# Altium footprint library cf2loco.PcbLib: 6 footprints
Each footprint in its own frame and in the unit in brackets; x right, y up, seen from the top. Pads: shape width x height; smd on the part's side, far side on the other; paste and mask are expansions set on the pad; w line width, h text height; cw(c..) or ccw(c..) is an arc to the next point about the centre after c.
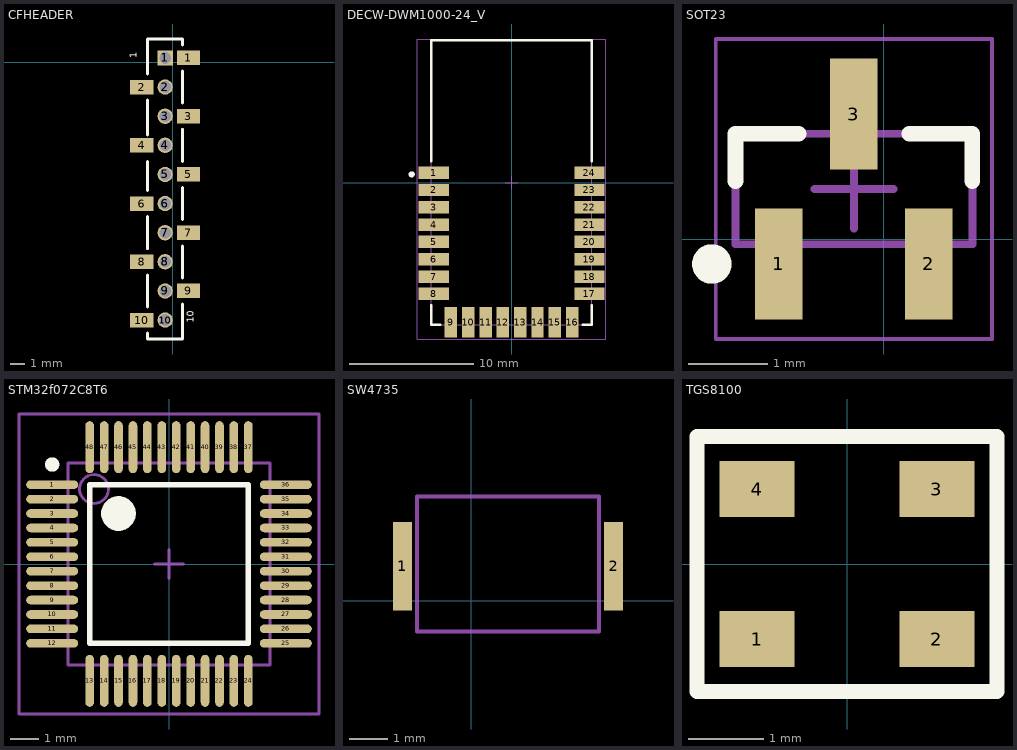
[diagram p0: the footprints below, top view; thin cyan lines are the x and y axes]

## CFHEADER [mm]
pads (30):
  rect 1.05x1.05 hole 0.8 paste-1.05 mask-1.05: 1(-0.528,0.3)
  round 1.05 smd paste-1.05 mask-0.05: 1(-0.528,0.3) 2(-0.528,-1.7) 3(-0.528,-3.7) 4(-0.528,-5.7) 5(-0.528,-7.7) 6(-0.528,-9.7) 7(-0.528,-11.7) 8(-0.528,-13.7) 9(-0.528,-15.7) 10(-0.528,-17.7)
  rect 1.6x1 smd paste-0.03 mask+0: 1(1.072,0.3) 2(-2.128,-1.7) 3(1.072,-3.7) 4(-2.128,-5.7) 5(1.072,-7.7) 6(-2.128,-9.7) 7(1.072,-11.7) 8(-2.128,-13.7) 9(1.072,-15.7) 10(-2.128,-17.7)
  round 1.05 hole 0.8 paste-1.05 mask-1.05: 2(-0.528,-1.7) 3(-0.528,-3.7) 4(-0.528,-5.7) 5(-0.528,-7.7) 6(-0.528,-9.7) 7(-0.528,-11.7) 8(-0.528,-13.7) 9(-0.528,-15.7) 10(-0.528,-17.7)
Top Overlay:
  lines w0.2: -1.728,-18.6 -1.728,-19 0.672,-19 0.672,-16.6 ; -1.728,-16.8 -1.728,-14.6 ; -1.728,-12.8 -1.728,-10.6 ; -1.728,-8.8 -1.728,-6.8 ; -1.728,-5 -1.728,-2.6 ; -1.728,-0.8 -1.728,1.6 0.672,1.6 0.672,1.2 ; 0.672,-14.8 0.672,-12.6 ; 0.672,-10.8 0.672,-8.6 ; 0.672,-6.8 0.672,-4.6 ; 0.672,-2.8 0.672,-0.6
  text "1" at -2.307,0.271 h0.8
  text "10" at 1.6,-17.883 h0.8

## DECW-DWM1000-24_V [mm] "SMD, 24-Leads, Body 23x13mm, Pitch 1.4mm"
height 4
pads (24):
  rect 2.45x1 smd: 1(-6.295,0.8) 2(-6.295,-0.6) 3(-6.295,-2) 4(-6.295,-3.4) 5(-6.295,-4.8) 6(-6.295,-6.2) 7(-6.295,-7.6) 8(-6.295,-9) 17(6.295,-9) 18(6.295,-7.6) 19(6.295,-6.2) 20(6.295,-4.8) 21(6.295,-3.4) 22(6.295,-2) 23(6.295,-0.6) 24(6.295,0.8)
  rect 1x2.45 smd: 9(-4.9,-11.295) 10(-3.5,-11.295) 11(-2.1,-11.295) 12(-0.7,-11.295) 13(0.7,-11.295) 14(2.1,-11.295) 15(3.5,-11.295) 16(4.9,-11.295)
Top Overlay:
  circle w0.25: c-8.07,0.66 r0.125
  lines w0.2: -6.5,-9.9 -6.5,-11.5 -5.77,-11.5 ; -6.5,1.7 -6.5,11.5 6.5,11.5 6.5,1.7 ; 5.77,-11.5 6.5,-11.5 6.5,-9.9
Mechanical 13:
  lines w0.1: -6.5,-11.5 6.5,-11.5 6.5,11.5 -6.5,11.5 -6.5,-11.5
Mechanical 15:
  lines w0.05: -7.62,-12.645 7.62,-12.645 7.62,11.6 -7.62,11.6 -7.62,-12.645 ; -0.5,0 0.5,0 -0.5,0 ; 0,-0.5 0,0.5 0,-0.5
3D body: height 4, standoff 0, extent -6.5,-11.5 6.5,11.5

## SOT23 [mm]
height 3
pads (3):
  rect 0.6x1.4 smd: 1(-1.331,-0.315) 2(0.569,-0.315) 3(-0.381,1.585)
Top Overlay:
  circle w0.25: c-2.181,-0.315 r0.125
  lines w0.2: -1.881,0.735 -1.881,1.335 -1.081,1.335 ; 0.319,1.335 1.119,1.335 1.119,0.735
Mechanical 13:
  lines w0.1: -1.881,-0.065 -1.881,1.335 1.119,1.335 1.119,-0.065 -1.881,-0.065
Mechanical 15:
  lines w0.05: -2.131,-1.265 -2.131,2.535 1.369,2.535 1.369,-1.265 -2.131,-1.265
  lines w0.1: -0.881,0.635 0.119,0.635 ; -0.381,0.135 -0.381,1.135
3D body: height 1.1, standoff 0, extent -1.881,-0.065 1.119,1.335

## STM32f072C8T6 [mm]
height 4.32
pads (48):
  oval 1.8x0.3 smd: 1(-4.05,2.75) 2(-4.05,2.25) 3(-4.05,1.75) 4(-4.05,1.25) 5(-4.05,0.75) 6(-4.05,0.25) 7(-4.05,-0.25) 8(-4.05,-0.75) 9(-4.05,-1.25) 10(-4.05,-1.75) 11(-4.05,-2.25) 12(-4.05,-2.75) 25(4.05,-2.75) 26(4.05,-2.25) 27(4.05,-1.75) 28(4.05,-1.25) 29(4.05,-0.75) 30(4.05,-0.25) 31(4.05,0.25) 32(4.05,0.75) 33(4.05,1.25) 34(4.05,1.75) 35(4.05,2.25) 36(4.05,2.75)
  oval 0.3x1.8 smd: 13(-2.75,-4.05) 14(-2.25,-4.05) 15(-1.75,-4.05) 16(-1.25,-4.05) 17(-0.75,-4.05) 18(-0.25,-4.05) 19(0.25,-4.05) 20(0.75,-4.05) 21(1.25,-4.05) 22(1.75,-4.05) 23(2.25,-4.05) 24(2.75,-4.05) 37(2.75,4.05) 38(2.25,4.05) 39(1.75,4.05) 40(1.25,4.05) 41(0.75,4.05) 42(0.25,4.05) 43(-0.25,4.05) 44(-0.75,4.05) 45(-1.25,4.05) 46(-1.75,4.05) 47(-2.25,4.05) 48(-2.75,4.05)
Top Overlay:
  circle w0.25: c-4.05,3.45 r0.125
  circle w0.6: c-1.75,1.75 r0.3
  lines w0.2: -2.75,-2.75 -2.75,2.75 2.75,2.75 2.75,-2.75 -2.75,-2.75
Mechanical 13:
  circle w0.1: c-2.6,2.6 r0.5
  lines w0.1: -3.5,-3.5 -3.5,3.5 3.5,3.5 3.5,-3.5 -3.5,-3.5
Mechanical 15:
  lines w0.1: -0.5,0 0.5,0 ; 0,-0.5 0,0.5 ; -5.2,-5.2 -5.2,5.2 5.2,5.2 5.2,-5.2 -5.2,-5.2
3D body: height 1.6, standoff 0, extent -3.5,-3.5 3.5,3.5

## SW4735 [mm]
height 1.65
pads (2):
  rect 0.5x2.3 smd: 1(-1.778,0.889) 2(3.683,0.889)
Mechanical 15:
  lines w0.1: -1.398,-0.804 -1.398,2.696 3.302,2.696 3.302,-0.804 -1.398,-0.804

## TGS8100 [mm]
pads (4):
  rect 1x0.75 smd: 1(-1.2,-1) 2(1.2,-1) 3(1.2,1) 4(-1.2,1)
Top Overlay:
  lines w0.2: -2,-1.7 -2,1.7 2,1.7 2,-0.3 2,-1.7 -2,-1.7